# Altium schematic symbol library Miscellaneous.SchLib: 37 symbols
Pins are listed as number, name and electrical type; pins without a type are passive.

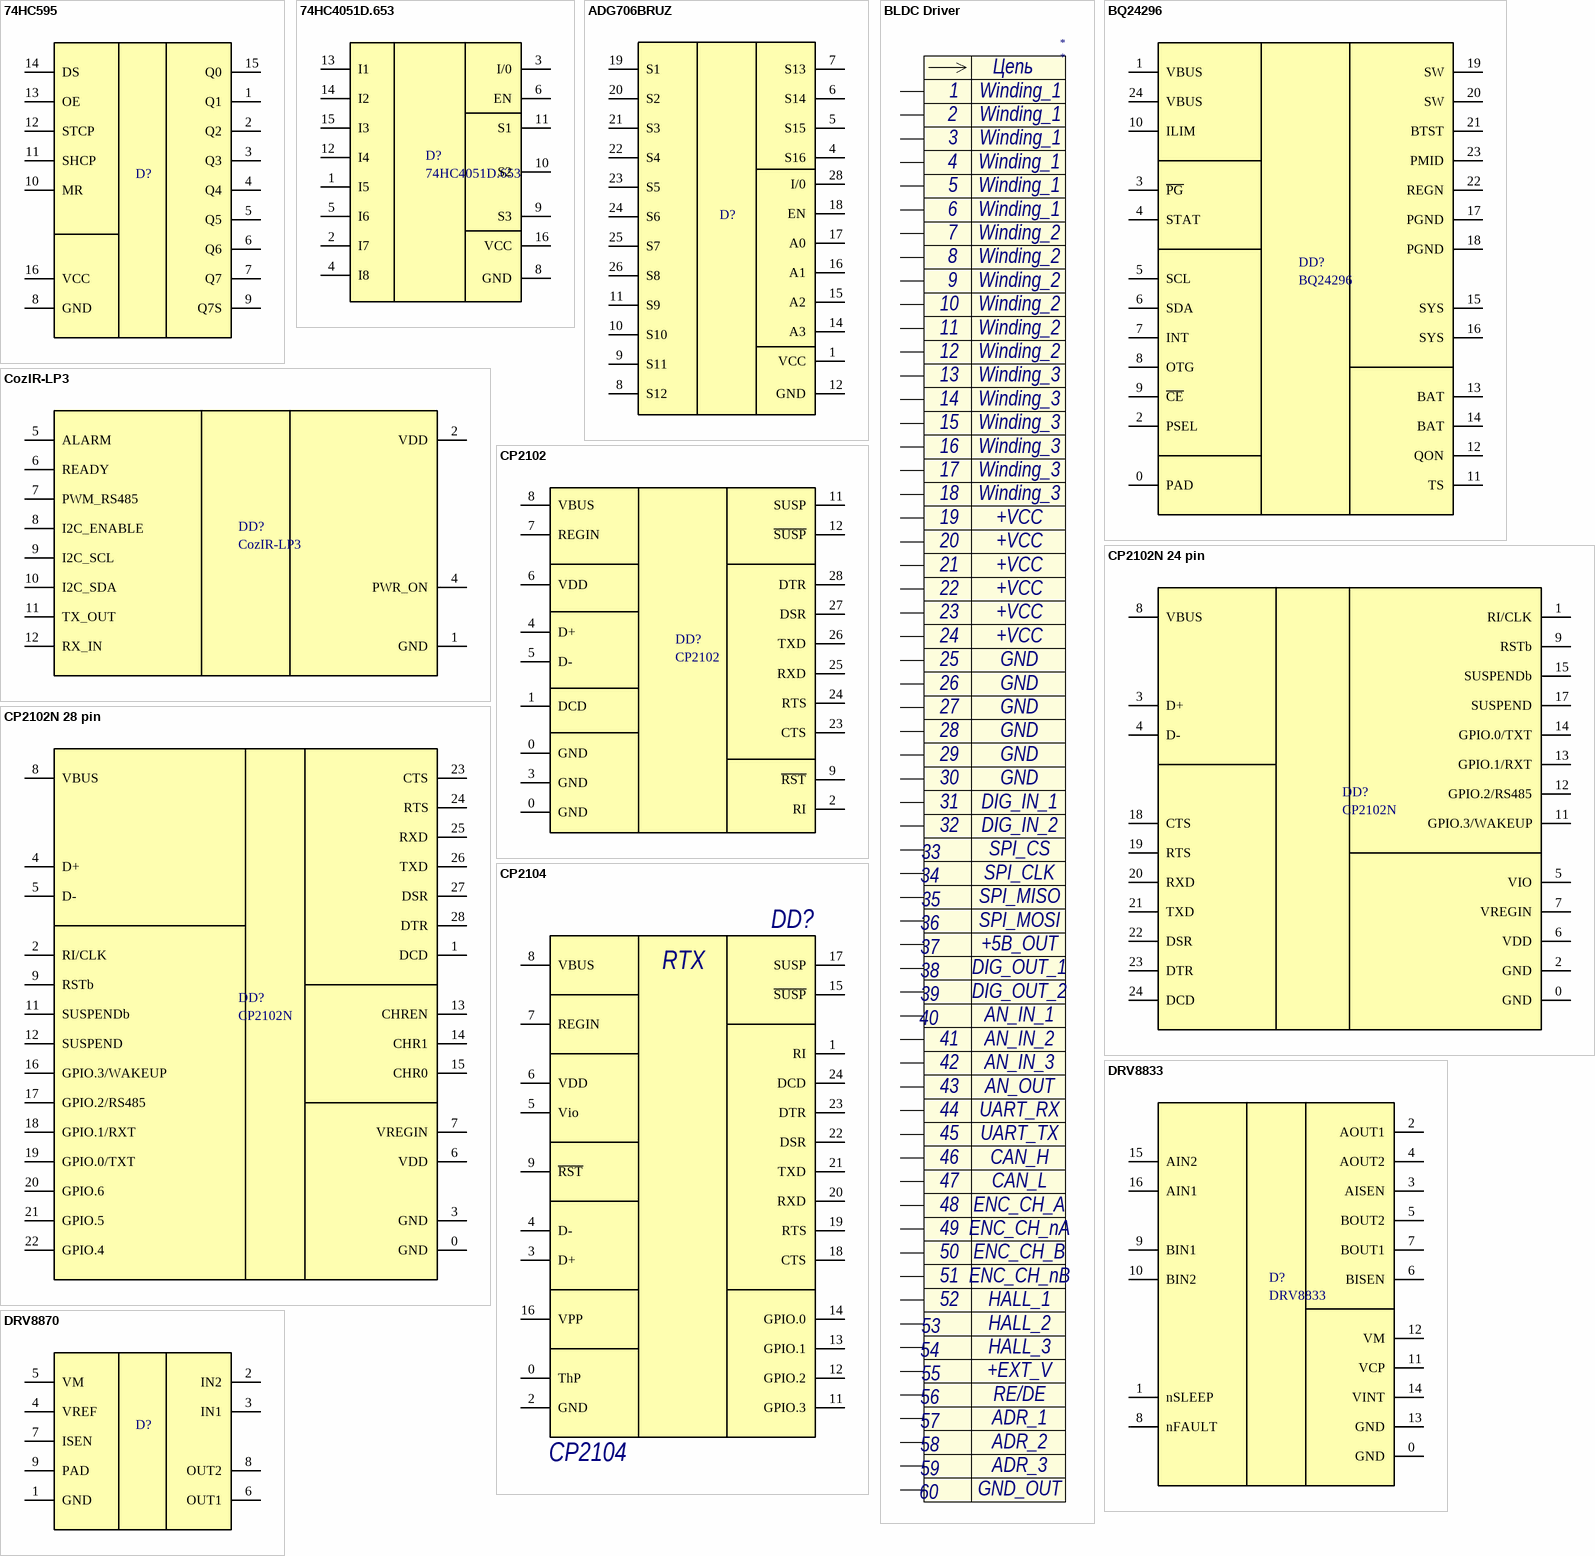
[diagram p0: symbols 74HC595 to DRV8870]

## 74HC595
designator D?
Shift register, 8 channels
footprint SOIC16 (SOIC, 16-Leads, Body 9,90x3,90mm, Pitch 1,27mm, IPC Medium Density)
pins: 1 Q1, 2 Q2, 3 Q3, 4 Q4, 5 Q5, 6 Q6, 7 Q7, 8 GND, 9 Q7S, 10 MR, 11 SHCP, 12 STCP, 13 OE, 14 DS, 15 Q0, 16 VCC

## 74HC4051D.653
designator D?
Multiplexer, 8 channels; Name: 74HC4051D.653
footprint SOIC16 (SOIC, 16-Leads, Body 9,90x3,90mm, Pitch 1,27mm, IPC Medium Density)
pins: 1 I5, 2 I7, 3 I/0, 4 I8, 5 I6, 6 EN, 8 GND, 9 S3, 10 S2, 11 S1, 12 I4, 13 I1, 14 I2, 15 I3, 16 VCC

## ADG706BRUZ
designator D?
Multiplexer, 16 channeles
footprint TSOP28 (TSOP, 28-Leads, Body 9,70x4,40mm, Pitch 0,65mm, IPC Medium Density)
pins: 1 VCC, 4 S16, 5 S15, 6 S14, 7 S13, 8 S12, 9 S11, 10 S10, 11 S9, 12 GND, 14 A3, 15 A2, 16 A1, 17 A0, 18 EN, 19 S1, 20 S2, 21 S3, 22 S4, 23 S5, 24 S6, 25 S7, 26 S8, 28 I/0

## BLDC Driver
designator *
BLDC motor driver; Contact_1: Winding_1; Contact_7: Winding_2; Contact_13: Winding_3; Contact_19: +VCC; Contact_25: GND; Contact_31: DIG_IN_1; Contact_32: DIG_IN_2; Contact_33: SPI_CS; Contact_34: SPI_CLK; Contact_35: SPI_MISO; Contact_36: SPI_MOSI; Contact_37: +5В_OUT; Contact_38: DIG_OUT_1; Contact_39: DIG_OUT_2; Contact_40: AN_IN_1; Contact_41: AN_IN_2; Contact_42: AN_IN_3; Contact_43: AN_OUT; Contact_44: UART_RX; Contact_45: UART_TX; Contact_46: CAN_H; Contact_47: CAN_L; Contact_48: ENC_CH_A; Contact_49: ENC_CH_nA; Contact_50: ENC_CH_B; Contact_51: ENC_CH_nB; Contact_52: HALL_1; Contact_53: HALL_2; Contact_54: HALL_3; Contact_55: +EXT_V; Contact_56: RE/DE; Contact_57: ADR_1; Contact_58: ADR_2; Contact_59: ADR_3; Contact_60: GND_OUT; Contact_2: Winding_1; Contact_3: Winding_1; Contact_4: Winding_1; Contact_5: Winding_1; Contact_6: Winding_1; Contact_8: Winding_2; Contact_9: Winding_2; Contact_10: Winding_2; Contact_11: Winding_2; Contact_12: Winding_2; Contact_14: Winding_3; Contact_15: Winding_3; Contact_16: Winding_3; Contact_17: Winding_3; Contact_18: Winding_3; Contact_20: +VCC; Contact_21: +VCC; Contact_22: +VCC; Contact_23: +VCC; Contact_24: +VCC; Contact_26: GND; Contact_27: GND; Contact_28: GND; Contact_29: GND; Contact_30: GND
footprint BLDC_Driver - 1
footprint BLDC_Driver - 2
footprint BLDC_Driver
pins: 1, 2, 3, 4, 5, 6, 7, 8, 9, 10, 11, 12, 13, 14, 15, 16, 17, 18, 19, 20, 21, 22, 23, 24, 25, 26, 27, 28, 29, 30, 31, 32, 33, 34, 35, 36, 37, 38, 39, 40, 41, 42, 43, 44, 45, 46, 47, 48, 49, 50, 51, 52, 53, 54, 55, 56, 57, 58, 59, 60
text: Цепь

## BQ24296
designator DD?
Li-ion charger IC
footprint QFN24 (4X4)
pins: 0 PAD, 1 VBUS, 2 PSEL, 3 ~{PG}, 4 STAT, 5 SCL, 6 SDA, 7 INT, 8 OTG, 9 ~{CE}, 10 ILIM, 11 TS, 12 QON, 13 BAT, 14 BAT, 15 SYS, 16 SYS, 17 PGND, 18 PGND, 19 SW, 20 SW, 21 BTST, 22 REGN, 23 PMID, 24 VBUS

## CozIR-LP3
designator DD?
CO2 sensor
footprint CozIR-LP3 (CO2 sensor)
pins: 1 GND, 2 VDD, 4 PWR_ON, 5 ALARM, 6 READY, 7 PWM_RS485, 8 I2C_ENABLE, 9 I2C_SCL, 10 I2C_SDA, 11 TX_OUT, 12 RX_IN

## CP2102
designator DD?
USB-UART converter
footprint QFN28 (5x5)
pins: 0 GND, 0 GND, 1 DCD, 2 RI, 3 GND, 4 D+, 5 D-, 6 VDD, 7 REGIN, 8 VBUS, 9 ~{RST}, 11 SUSP, 12 ~{SUSP}, 23 CTS, 24 RTS, 25 RXD, 26 TXD, 27 DSR, 28 DTR

## CP2102N 24 pin
designator DD?, comment CP2102N
USB-UART converter
footprint QFN24 (4X4)
pins: 0 GND, 1 RI/CLK, 2 GND, 3 D+, 4 D-, 5 VIO, 6 VDD, 7 VREGIN, 8 VBUS, 9 RSTb, 11 GPIO.3/WAKEUP, 12 GPIO.2/RS485, 13 GPIO.1/RXT, 14 GPIO.0/TXT, 15 SUSPENDb, 17 SUSPEND, 18 CTS, 19 RTS, 20 RXD, 21 TXD, 22 DSR, 23 DTR, 24 DCD

## CP2102N 28 pin
designator DD?, comment CP2102N
USB-UART converter
footprint QFN28 (5x5)
pins: 0 GND, 1 DCD, 2 RI/CLK, 3 GND, 4 D+, 5 D-, 6 VDD, 7 VREGIN, 8 VBUS, 9 RSTb, 11 SUSPENDb, 12 SUSPEND, 13 CHREN, 14 CHR1, 15 CHR0, 16 GPIO.3/WAKEUP, 17 GPIO.2/RS485, 18 GPIO.1/RXT, 19 GPIO.0/TXT, 20 GPIO.6, 21 GPIO.5, 22 GPIO.4, 23 CTS, 24 RTS, 25 RXD, 26 TXD, 27 DSR, 28 DTR

## CP2104
designator DD?
USB-UART converter; Manufacturer: Silicon Labs; Baud rate range: 300бит/с...2Мбит/с; Name: CP2104; Package: QFN-24
footprint QFN24 (4X4)
pins: 0 ThP, 1 RI, 2 GND, 3 D+, 4 D-, 5 Vio, 6 VDD, 7 REGIN, 8 VBUS, 9 ~{RST}, 10 NC hidden, 11 GPIO.3, 12 GPIO.2, 13 GPIO.1, 14 GPIO.0, 15 ~{SUSP}, 16 VPP, 17 SUSP, 18 CTS, 19 RTS, 20 RXD, 21 TXD, 22 DSR, 23 DTR, 24 DCD
text: RTX

## DRV8833
designator D?
DC motor driver, 2 channel,  2.7-10.8V, 1.5A
footprint TSSOP16 (TSOP, 16-Leads, Body 5,10x4,40mm, Pitch 0,65mm, Thermal Pad 2,31x2,46mm, IPC Medium Density)
pins: 0 GND, 1 nSLEEP, 2 AOUT1, 3 AISEN, 4 AOUT2, 5 BOUT2, 6 BISEN, 7 BOUT1, 8 nFAULT, 9 BIN1, 10 BIN2, 11 VCP, 12 VM, 13 GND, 14 VINT, 15 AIN2, 16 AIN1

## DRV8870
designator D?
DC motor driver, 1 channel,  6.5-45V, 3.6A
footprint SOIC8 WITH THERMAL PAD (SOIC, 8 leads, with thermal pad)
pins: 1 GND, 2 IN2, 3 IN1, 4 VREF, 5 VM, 6 OUT1, 7 ISEN, 8 OUT2, 9 PAD

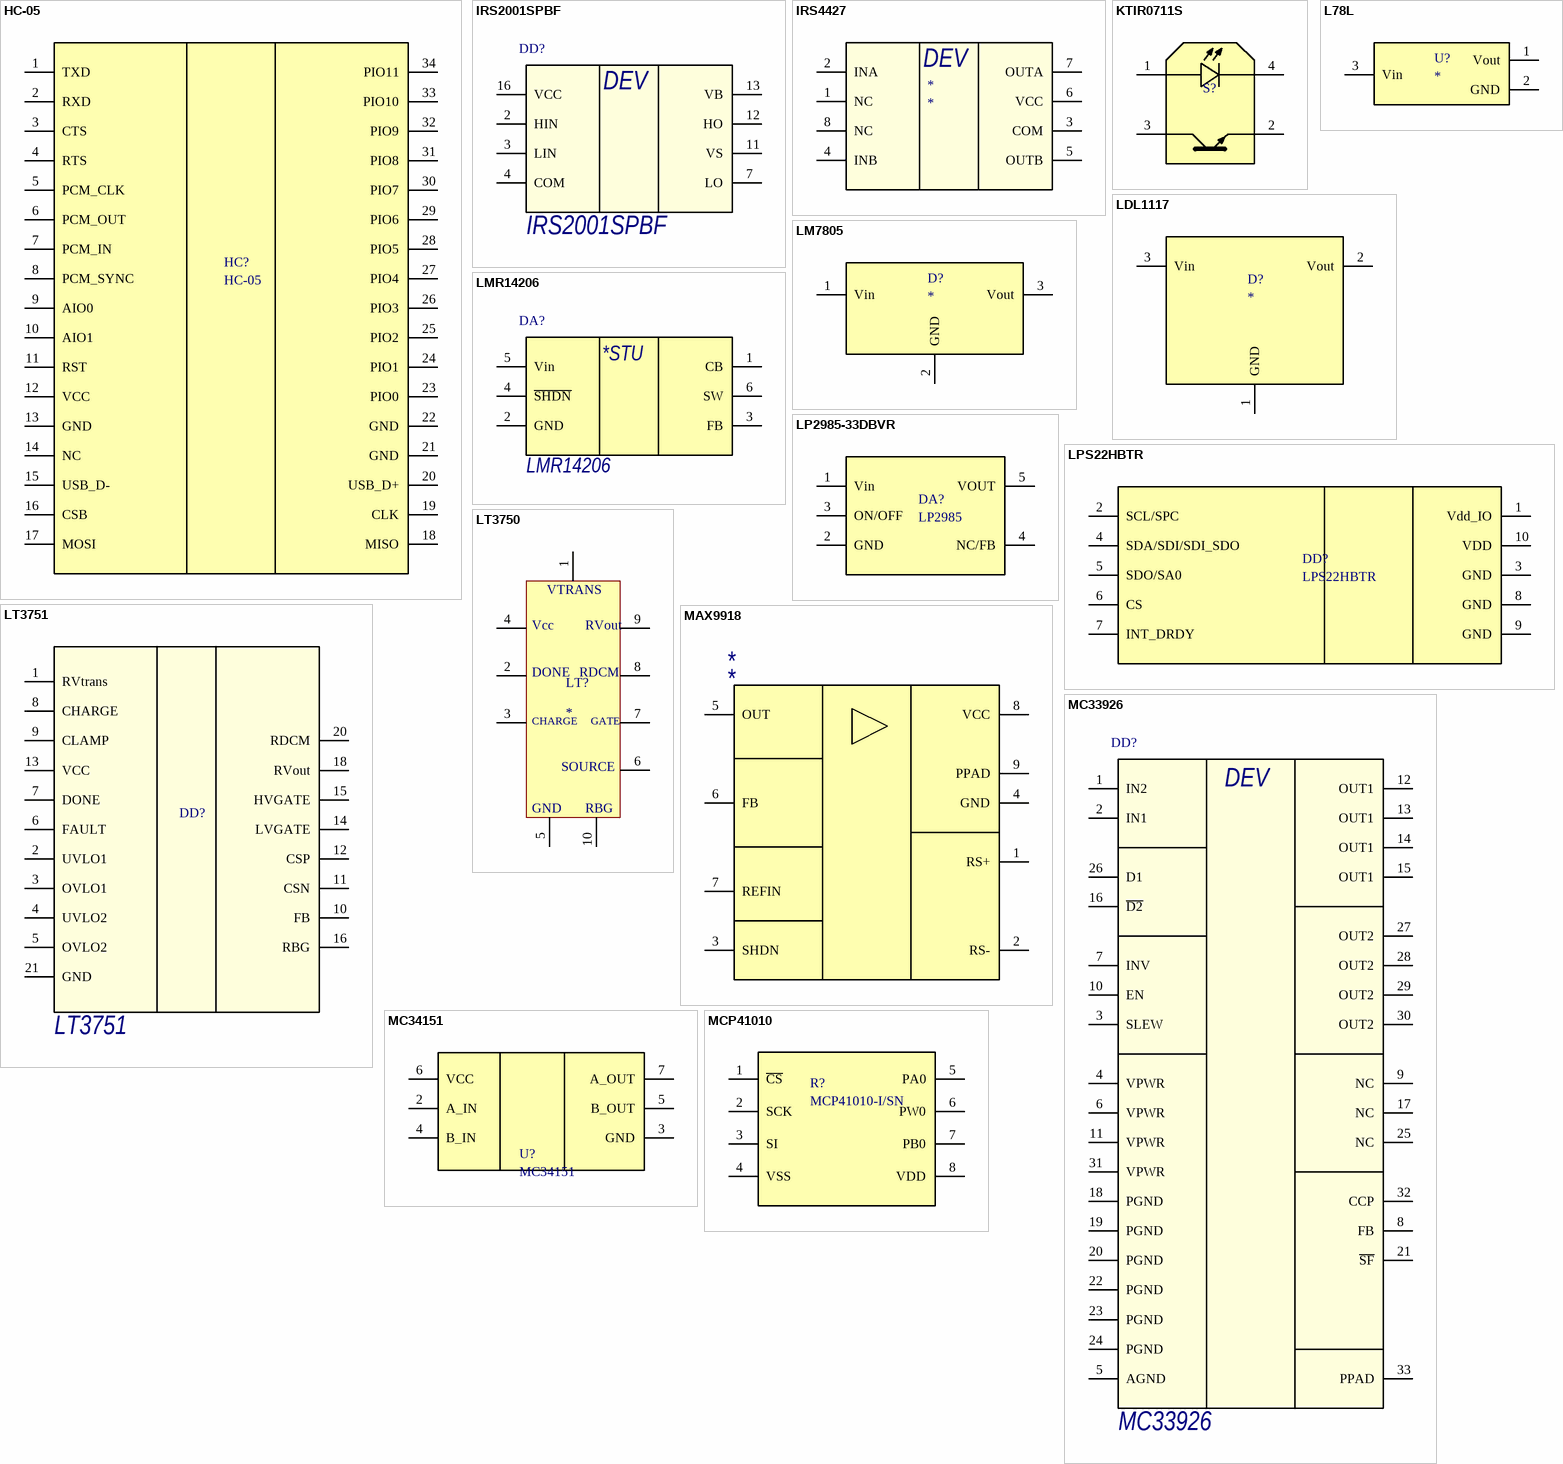
[diagram p1: symbols HC-05 to MCP41010]

## HC-05
designator HC?
Bluetooth 2.0 module
footprint HC-05 (Bluetooth 2.0 module)
pins: 1 TXD, 2 RXD, 3 CTS, 4 RTS, 5 PCM_CLK, 6 PCM_OUT, 7 PCM_IN, 8 PCM_SYNC, 9 AIO0, 10 AIO1, 11 RST, 12 VCC "3.3В", 13 GND, 14 NC, 15 USB_D-, 16 CSB, 17 MOSI, 18 MISO, 19 CLK, 20 USB_D+, 21 GND, 22 GND, 23 PIO0, 24 PIO1, 25 PIO2, 26 PIO3, 27 PIO4, 28 PIO5, 29 PIO6, 30 PIO7, 31 PIO8 "LED1", 32 PIO9 "LED2", 33 PIO10, 34 PIO11 "KEY"

## IRS2001SPBF
designator DD?
High side MOSFET driver; Name: IRS2001SPBF
footprint SO8
pins: 2 HIN, 3 LIN, 4 COM, 7 LO, 11 VS, 12 HO, 13 VB, 16 VCC
text: DEV

## IRS4427
designator *
Low side MOSFET driver
footprint SO8
footprint SOIC8
pins: 1 NC, 2 INA, 3 COM, 4 INB, 5 OUTB, 6 VCC, 7 OUTA, 8 NC
text: DEV

## KTIR0711S
designator S?
IR photointerrupter
footprint KTIR0711S
pins: 1 A, 2 E, 3 C, 4 C

## L78L
designator U?
DC-DC converter (5v)
footprint SOT 89
pins: 1 Vout, 2 GND, 3 Vin

## LDL1117
designator D?
DC-DC converter
footprint SOT223_M (SOT223, 4-Leads, Body 6.5x3.5mm, Pitch 2.3mm, Lead Span 7mm, IPC Low Density)
pins: 1 GND, 2 Vout, 3 Vin

## LM7805
designator D?
DC-DC converter
footprint DPAK (D-PAK, 3-Pads, Body 6,20x6,66mm (max), IPC Medium Density)
pins: 1 Vin, 2 GND, 3 Vout

## LMR14206
designator DA?
DC-DC converter; Name: LMR14206
footprint SOT23-6
pins: 1 CB, 2 GND, 3 FB, 4 ~{SHDN}, 5 Vin, 6 SW
text: *STU

## LP2985-33DBVR
designator DA?, comment LP2985
footprint SOT23-5
pins: 1 Vin, 2 GND, 3 ON/OFF, 4 NC/FB, 5 VOUT

## LPS22HBTR
designator DD?
MEMS digital pressure sensor, 260-1260 HPa
footprint HLGA-10L
pins: 1 Vdd_IO, 2 SCL/SPC, 3 GND, 4 SDA/SDI/SDI_SDO, 5 SDO/SA0, 6 CS, 7 INT_DRDY, 8 GND, 9 GND, 10 VDD

## LT3750
designator LT?
footprint LT3750
pins: 1 VTRANS (oc), 2 DONE (oc), 3 CHARGE (oc), 4 Vcc (oc), 5 GND (oc), 6 SOURCE (oc), 7 RDCM (oc), 8 RDCM (oc), 9 RVout (oc), 10 RBG (oc)
text: GATE

## LT3751
designator DD?
Capacitor charger/Flyback controller; Name: LT3751
footprint TSSOP-20
pins: 1 RVtrans, 2 UVLO1, 3 OVLO1, 4 UVLO2, 5 OVLO2, 6 FAULT, 7 DONE, 8 CHARGE, 9 CLAMP, 10 FB, 11 CSN, 12 CSP, 13 VCC, 14 LVGATE, 15 HVGATE, 16 RBG, 18 RVout, 20 RDCM, 21 GND

## MAX9918
designator *
Name: MAX9918
footprint SO8 PWR_PAD
pins: 1 RS+, 2 RS-, 3 SHDN, 4 GND, 5 OUT, 6 FB, 7 REFIN, 8 VCC, 9 PPAD

## MC33926
designator DD?
H-Bridge driver, 5A; Name: MC33926
footprint PQFN32
pins: 1 IN2, 2 IN1, 3 SLEW, 4 VPWR, 5 AGND, 6 VPWR, 7 INV, 8 FB, 9 NC, 10 EN, 11 VPWR, 12 OUT1, 13 OUT1, 14 OUT1, 15 OUT1, 16 ~{D2}, 17 NC, 18 PGND, 19 PGND, 20 PGND, 21 ~{SF}, 22 PGND, 23 PGND, 24 PGND, 25 NC, 26 D1, 27 OUT2, 28 OUT2, 29 OUT2, 30 OUT2, 31 VPWR, 32 CCP, 33 PPAD
text: DEV

## MC34151
designator U?
name: MC34151
footprint SO8
pins: 2 A_IN, 3 GND, 4 B_IN, 5 B_OUT, 6 VCC, 7 A_OUT

## MCP41010
designator R?, comment MCP41010-I/SN
SPI Digital potentiometer; Taps for each potentiometr: 256; Potentiometr values: 10 kOhm; Name: MCP41010-I/SN; Serial interface: SPI
footprint SOIC8
pins: 1 ~{CS}, 2 SCK, 3 SI, 4 VSS, 5 PA0, 6 PW0, 7 PB0, 8 VDD

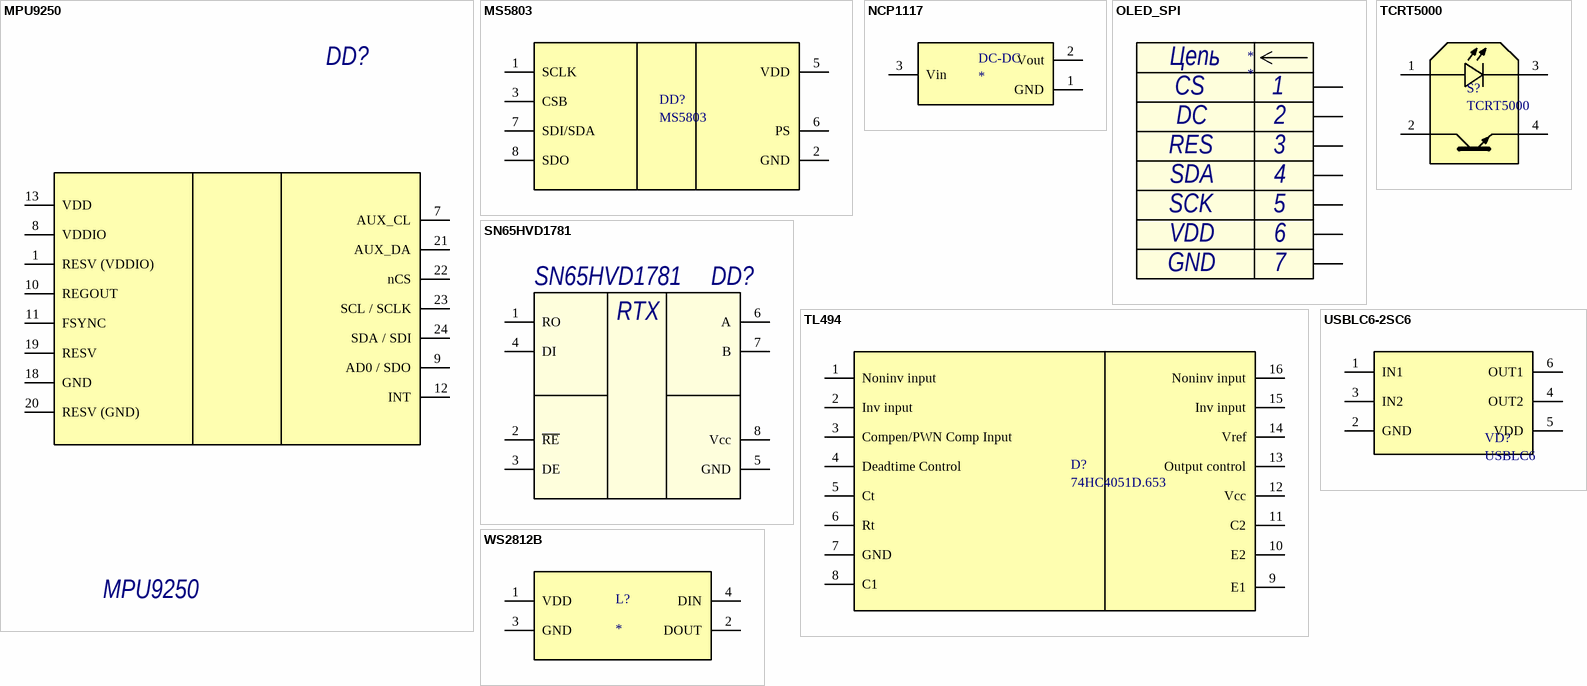
[diagram p2: symbols MPU9250 to WS2812B]

## MPU9250
designator DD?
IMU-sensor, 9-DOF; Name: MPU9250; Package: QFN-24
footprint QFN24 (3X3)
pins: 1 RESV (VDDIO) "Reserved. Connect to VDDIO.", 7 AUX_CL "I2C Master serial clock, for connecting to external sensors", 8 VDDIO "Digital I/O supply voltage", 9 AD0 / SDO "I2C Slave Address LSB (AD0); SPI serial data output (SDO)", 10 NC hidden, 10 REGOUT "Regulator filter capacitor connection", 11 FSYNC "Frame synchronization digital input. Connect to GND if unused.", 12 INT "Interrupt digital output (totem pole or open-drain)", 13 VDD "Power supply voltage and Digital I/O supply voltage", 18 GND "Power supply ground", 19 RESV "Reserved. Do not connect.", 20 RESV (GND) "Reserved. Connect to GND.", 21 AUX_DA "I2C master serial data, for connecting to external sensors", 22 nCS "Chip select (SPI mode only)", 23 SCL / SCLK "I2C serial clock (SCL); SPI serial clock (SCLK)", 24 SDA / SDI "I2C serial data (SDA); SPI serial data input (SDI)"

## MS5803
designator DD?
Pressure sensor
footprint MS5803 (Pressure sensor)
pins: 1 SCLK, 2 GND, 3 CSB, 5 VDD, 6 PS, 7 SDI/SDA, 8 SDO

## NCP1117
designator DC-DC
pins: 1 GND, 2 Vout, 3 Vin

## OLED_SPI
designator *
Contact_1: CS; Contact_2: DC; Contact_3: RES; Contact_4: SDA; Contact_5: SCK; Contact_6: VDD; Contact_7: GND
footprint OLED_SPI
pins: 1, 2, 3, 4, 5, 6, 7
text: Цепь

## SN65HVD1781
designator DD?
RS-485 - UART converter; Name: SN65HVD1781
footprint SO8
pins: 1 RO, 2 ~{RE}, 3 DE, 4 DI, 5 GND, 6 A, 7 B, 8 Vcc
text: RTX

## TCRT5000
designator S?
IR photointerrupter
footprint TCRT5000
pins: 1 A, 2 C, 3 C, 4 E

## TL494
designator D?, comment 74HC4051D.653
Pulse Width / Modulation Control Circuit; Name: 74HC4051D.653; Datasheet: https://www.onsemi.com/pdf/datasheet/tl494-d.pdf
footprint SOIC16 (SOIC, 16-Leads, Body 9,90x3,90mm, Pitch 1,27mm, IPC Medium Density)
pins: 1 Noninv input, 2 Inv input, 3 Compen/PWN Comp Input, 4 Deadtime Control, 5 Ct, 6 Rt, 7 GND, 8 C1, 9 E1, 10 E2, 11 C2, 12 Vcc, 13 Output control, 14 Vref, 15 Inv input, 16 Noninv input

## USBLC6-2SC6
designator VD?, comment USBLC6
footprint SOT23-6
pins: 1 IN1, 2 GND, 3 IN2, 4 OUT2, 5 VDD, 6 OUT1

## WS2812B
designator L?
footprint WS2812B (LED)
pins: 1 VDD, 2 DOUT, 3 GND, 4 DIN